# Altium footprint library RES 200.PcbLib: 1 footprints
Each footprint in its own frame and in the unit in brackets; x right, y up, seen from the top. Pads: shape width x height; smd on the part's side, far side on the other; paste and mask are expansions set on the pad; w line width, h text height; cw(c..) or ccw(c..) is an arc to the next point about the centre after c.
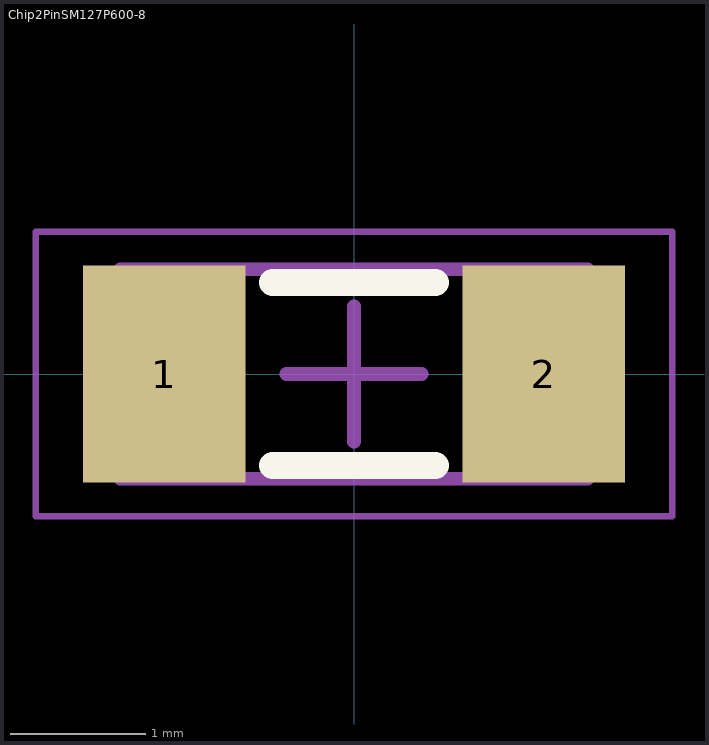
[diagram p0: the footprint, top view; thin cyan lines are the x and y axes]

## Chip2PinSM127P600-8 [mm]
height 0.6
pads (2):
  rect 1.2x1.6 smd: 1(-1.4,0) 2(1.4,0)
Top Overlay:
  lines w0.2: -0.6,-0.675 0.6,-0.675 ; -0.6,0.675 0.6,0.675
Mechanical 13:
  lines w0.1: -1.725,-0.775 1.725,-0.775 1.725,0.775 -1.725,0.775 -1.725,-0.775
Mechanical 15:
  lines w0.05: -2.35,-1.05 2.35,-1.05 2.35,1.05 -2.35,1.05 -2.35,-1.05
  lines w0.1: -0.5,0 0.5,0 ; 0,-0.5 0,0.5
3D body: height 0.6, standoff 0, extent 1.225,-0.775 1.725,0.775
3D body: height 0.6, standoff 0, extent -1.725,-0.775 -1.225,0.775
3D body: height 0.6, standoff 0, extent -1.225,-0.775 1.225,0.775